# EAGLE library part SIM7000 (library sim7000)
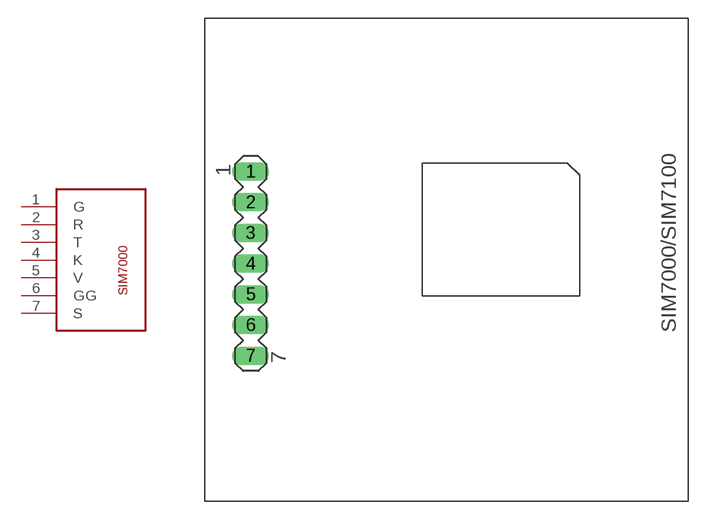
[diagram p0: symbol with the pads of SIM7000; footprint SIM7000]

Designator prefix -

## SIM7000  [SIM7000]
1  G
2  R
3  T
4  K
5  V
6  GG
7  S

## Footprint SIM7000 (pad centres in mm)
drill 1.016 long: 1 -13.97,3.81; 2 -13.97,1.27; 3 -13.97,-1.27; 4 -13.97,-3.81; 5 -13.97,-6.35; 6 -13.97,-8.89; 7 -13.97,-11.43